# EAGLE library part SN74AHC74 (library texas-instruments)
IC D-TYPE POS TRG DUAL 14SOIC
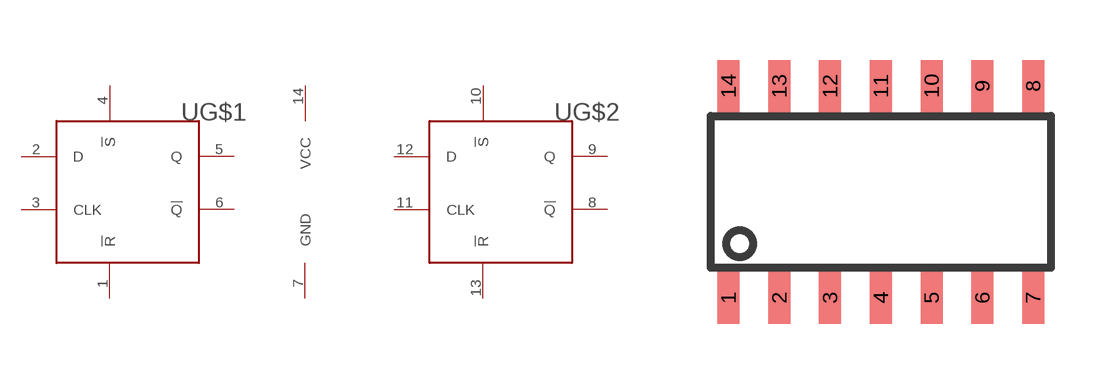
[diagram p24: symbol with the pads of SOIC14_D; footprint SOIC14_D]

Designator prefix U; gates G$1=SN74AHC74 G$2=SN74AHC74 G$3=SN74-PWRGND

## SN74AHC74 (DIGIKEY: 296-1105-1-ND; P1I: o)  [SOIC14_D]
1  G$1:!R  in
2  G$1:D  in
3  G$1:CLK  in
4  G$1:!S  in
5  G$1:Q  in
6  G$1:!Q  in
7  G$3:GND  in
8  G$2:!Q  in
9  G$2:Q  in
10  G$2:!S  in
11  G$2:CLK  in
12  G$2:D  in
13  G$2:!R  in
14  G$3:VCC  in

## Footprint SOIC14_D (pad centres in mm)
PLASTIC SMALL-OUTLINE PACKAGE SO 14 JEDEC MS-012, D Type Source: www.ti.com/.. slvs087l.pdf
smd 0.55 x 1.3: 1 -3.81,-2.65; 2 -2.54,-2.65; 3 -1.27,-2.65; 4 0,-2.65; 5 1.27,-2.65; 6 2.54,-2.65; 7 3.81,-2.65; 8 3.81,2.65; 9 2.54,2.65; 10 1.27,2.65; 11 0,2.65; 12 -1.27,2.65; 13 -2.54,2.65; 14 -3.81,2.65